# EAGLE library part AD5592R (library AD5592R)
Analog Devices AD5592 8 Channel, 12 Bit, Configurable ADC/DAC with On Chip Reference, SPI Interface Description: The AD5592R/AD5592R-1 have eight I/Ox pins (I/O0 to I/O7) that can be independently configured as digital-to-analog converter (DAC) outputs, analog-to-digital converter (ADC) inputs, digital outputs, or digital inputs. When an I/Ox pin is configured as an analog output, it is driven by a 12-bit DAC. The output range of the DAC is 0 V to VREF or 0 V to 2 × VREF. When an I/Ox pin is configured as an analog input, it is connected to a 12-bit ADC via an analog multiplexer. The input range of the ADC is 0 V to VREF or 0 V to 2 × VREF. The ADC has a total throughput rate of 400 kSPS. The I/Ox pins can also be configured as digital, general-purpose input or output (GPIO) pins. The state of the GPIO pins can be set or read back by accessing the GPIO write data register or the GPIO read configuration register, respectively, via a serial peripheral interface (SPI) write or read operation. Please contact crmadsen@gmail.com for any questions regarding this model.
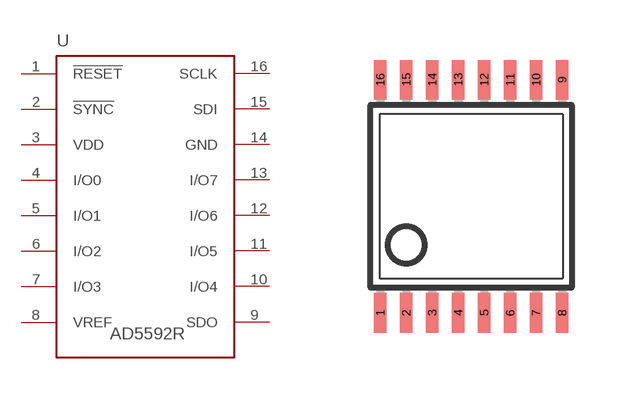
[diagram p0: symbol with the pads of TSSOP16; footprint TSSOP16]

Designator prefix U

## AD5592R  [TSSOP16]
1  !RESET!  in
2  !SYNC!  in
3  VDD  pwr
4  I/O0
5  I/O1
6  I/O2
7  I/O3
8  VREF  pwr
9  SDO
10  I/O4
11  I/O5
12  I/O6
13  I/O7
14  GND  pwr
15  SDI
16  SCLK  in

## Footprint TSSOP16 (pad centres in mm)
Thin Shrink Small Outline Plastic 16 MAX3223-MAX3243.pdf
smd 0.305 x 0.991: 1 -2.275,-2.918; 2 -1.625,-2.918; 3 -0.975,-2.918; 4 -0.325,-2.918; 5 0.325,-2.918; 6 0.975,-2.918; 7 1.625,-2.918; 8 2.275,-2.918; 9 2.275,2.918; 10 1.625,2.918; 11 0.975,2.918; 12 0.325,2.918; 13 -0.325,2.918; 14 -0.975,2.918; 15 -1.625,2.918; 16 -2.275,2.918